# Altium schematic symbol library DIODE,TVS,33V,SOD323.Schlib: 1 symbol
Pins are listed as number, name and electrical type; pins without a type are passive.

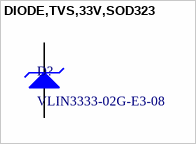
[diagram p0: symbol DIODE,TVS,33V,SOD323]

## DIODE,TVS,33V,SOD323
designator D?, comment VLIN3333-02G-E3-08
57V Clamp 3.5A (8/20µs) Ipp Tvs Diode Surface Mount SOD-323
pins: 1 K, 2 A